# EAGLE library part LTC3553 (library Pinoccio)
Linear Technology LTC3553 USB Power Controller and Li-Ion Charger Packages: QFN-20
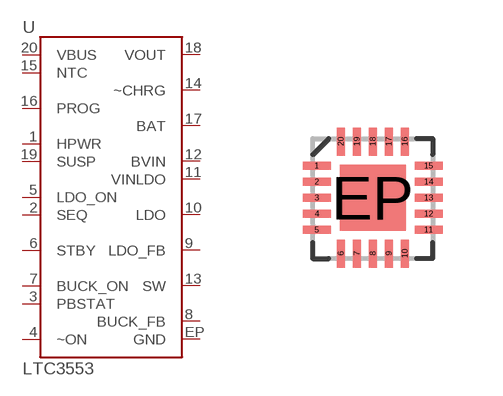
[diagram p14: symbol with the pads of QFN-20; footprint QFN-20]

Designator prefix U

## LTC3553QFN-20  [QFN-20]
1  HPWR
2  SEQ
3  PBSTAT
4  ~ON
5  LDO_ON
6  STBY
7  BUCK_ON
8  BUCK_FB
9  LDO_FB
10  LDO
11  VINLDO
12  BVIN
13  SW
14  ~CHRG
15  NTC
16  PROG
17  BAT
18  VOUT
19  SUSP
20  VBUS
EP  GND

## Footprint QFN-20 (pad centres in mm)
smd 0.7 x 0.2: 1 -1.4,0.8; 2 -1.4,0.4; 3 -1.4,0; 4 -1.4,-0.4; 5 -1.4,-0.8; 11 1.4,-0.8; 12 1.4,-0.4; 13 1.4,0; 14 1.4,0.4; 15 1.4,0.8
smd 0.2 x 0.7: 6 -0.8,-1.4; 7 -0.4,-1.4; 8 0,-1.4; 9 0.4,-1.4; 10 0.8,-1.4; 16 0.8,1.4; 17 0.4,1.4; 18 0,1.4; 19 -0.4,1.4; 20 -0.8,1.4
smd 1.65 x 1.65: EP 0,0